# EAGLE library part SN74LVC2G06 (library di_ic)
Dual Inverter buffer/driver with open-drain outputs. Reference: http://focus.ti.com/lit/ds/symlink/sn74lvc2g06.pdf
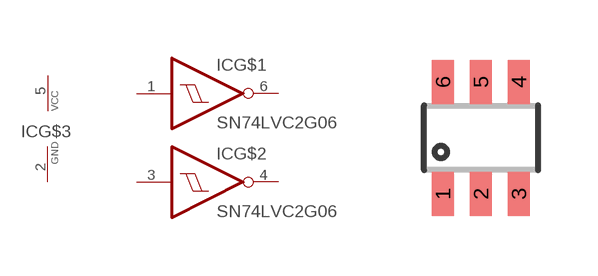
[diagram p36: symbol with the pads of SOT23-6; footprint SOT23-6]

Designator prefix IC; gates G$1=SN74LVC2G06 G$2=SN74LVC2G06 G$3=VCC-GND

## SN74LVC2G06  [SOT23-6]
1  G$1:I  in
2  G$3:GND  pwr
3  G$2:I  in
4  G$2:O  out
5  G$3:VCC  pwr
6  G$1:O  out

## Footprint SOT23-6 (pad centres in mm)
Small Outline Transistor
smd 0.55 x 1.1: 1 -0.95,-1.4; 2 0,-1.4; 3 0.95,-1.4; 4 0.95,1.4; 5 0,1.4; 6 -0.95,1.4